# EAGLE library part CADDOCK-1776-C6815 (library CADDOCK-1776)
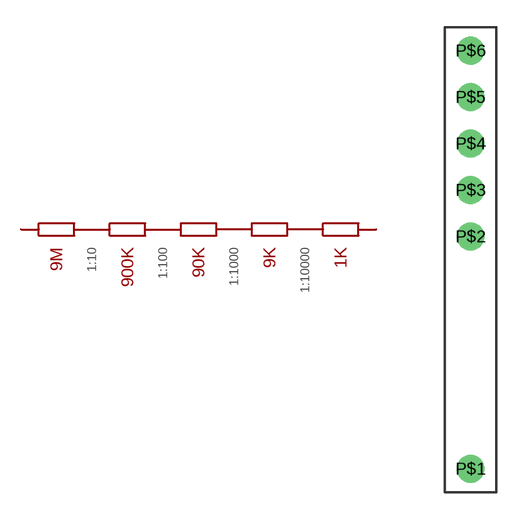
[diagram p1: symbol with the pads of CADDOCK-1776-C6815; footprint CADDOCK-1776-C6815]

Designator prefix -

## CADDOCK-1776-C6815  [CADDOCK-1776-C6815]
P$1  P$1
P$2  P$2
P$3  P$3
P$4  P$4
P$5  P$5
P$6  P$6

## Footprint CADDOCK-1776-C6815 (pad centres in mm)
drill 1: P$1 0,-10.16; P$2 0,2.54; P$3 0,5.08; P$4 0,7.62; P$5 0,10.16; P$6 0,12.7